# Altium schematic symbol library Capacitors.SchLib: 17 symbols
Pins are listed as number, name and electrical type; pins without a type are passive.

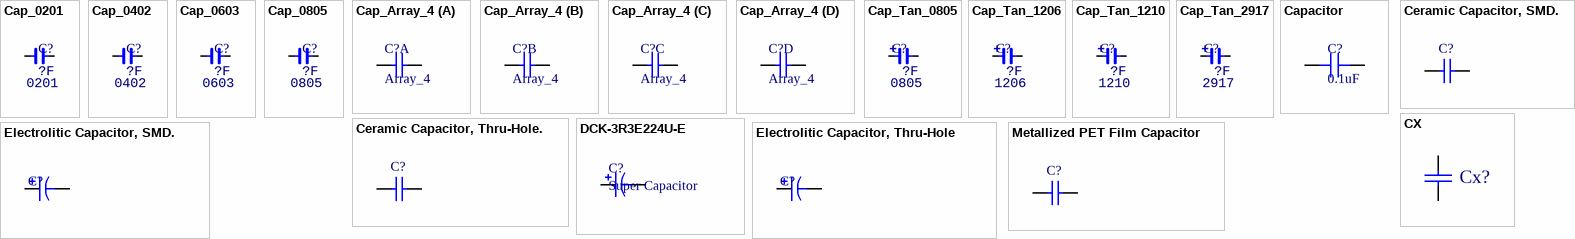
[diagram p0: symbols Cap_0201 to Metallized PET Film Capacitor]

## Cap_0201
designator C?, comment Type: 0201  (hidden comment: ?F)
Capacitor; Specification: X7R 50V; Manufacturer: *; Value: ?F
footprint CAP_0201
pins: 1, 2

## Cap_0402
designator C?, comment value ?F  Type: 0402  (hidden comment: C0402)
Capacitor; Specification: X7R 50V; Manufacturer: *
footprint CAP_0402
footprint 0402 (Empaque SMD0403 Azul)
footprint 0402_1x0.5x0.5mm (Ceramic Capacitors, 0402, body 1x0.5mm)
footprint CAP 0402/1005 (Chip Capacitor, 2-Leads, Body 1.02x0.51mm, IPC Medium Density)
footprint CAP 0402/1005 RF (Chip Capacitor, 2-Leads, Body 1.02x0.51mm, IPC High Density)
footprint SMD-0402C
pins: 1, 2

## Cap_0603
designator C?, comment value ?F  Type: 0603  (hidden comment: C0402)
Capacitor; Specification: X7R 50V; Manufacturer: *
footprint CAP_0603
pins: 1, 2

## Cap_0805
designator C?, comment value ?F  Type: 0805  (hidden comment: C0402)
Capacitor; Specification: X7R 50V; Manufacturer: *
footprint CAP_0805
pins: 1, 2

## Cap_Array_4
designator C?, comment Array_4
footprint CKCL44
part A pins: 1, 8
part B pins: 2, 7
part C pins: 3, 6
part D pins: 4, 5

## Cap_Tan_0805
designator C?, comment value ?F  Type: 0805  (hidden comment: C0805)
Capacitor Tantalum; Specification: X5R 10V; Manufacturer: *
footprint CAP_TAN_P0805
pins: 1, 2
1 alternate drawing of the same symbol

## Cap_Tan_1206
designator C?, comment value ?F  Type: 1206  (hidden comment: C1206)
Capacitor Tantalum; Specification: X5R 10V; Manufacturer: *
footprint CAP_TAN_A1206
pins: 1, 2
1 alternate drawing of the same symbol

## Cap_Tan_1210
designator C?, comment value ?F  Type: 1210  (hidden comment: C1210)
Capacitor Tantalum; Specification: X5R 10V; Manufacturer: *
footprint CAP_TAN_B1210
pins: 1, 2
1 alternate drawing of the same symbol

## Cap_Tan_2917
designator C?, comment value ?F  Type: 2917  (hidden comment: C2917)
Capacitor Tantalum; Specification: X5R 10V; Manufacturer: *
footprint CAP_TAN_D2917
pins: 1, 2
1 alternate drawing of the same symbol

## Capacitor
designator C?, comment 0.1uF
SMT Capacitor; Value: 0.1uF
footprint CAP 0201/0603 (Chip Capacitor, 2-Leads, Body 0.60x0.30mm, IPC Medium Density)
footprint CAP 0201/0603 RF (Chip Capacitor, 2-Leads, Body 0.60x0.30mm, IPC High Density)
footprint CAP 0402/1005 (Chip Capacitor, 2-Leads, Body 1.02x0.51mm, IPC Medium Density)
footprint CAP 0603/1608 (Chip Capacitor, 2-Leads, Body 1.60x0.80mm, IPC Medium Density)
footprint 1206
footprint SMD-0201C (SMD-0201)
footprint SMD-0402C
footprint SMD-0603C
footprint SMD-0805C
footprint SMD-1206C
footprint SMD-1210C
pins: 1, 2

## Ceramic Capacitor, SMD.
designator C?, comment 100 nF  (value not drawn)
Ceramic Capacitor, SMD.; LatestReviewer: Shahrear; Contact: shahrear@hiberxen.com; Value: 100 nF; Created by: Shahrear Mahmud; Publisher: HiberXen; LatestReviewData: 10-Feb-2015
footprint 0603 Gray (Empaque SMD 0603 Gris)
footprint 0805 Brown (Empaque SMD 0805 Gris)
footprint 0805 Gray (Empaque SMD 0805 Gris)
footprint CAPC1005X55N (Chip Capacitor, Body 1.0x0.5mm, EIA 0402, IPC Medium Density)
footprint CAPC1608X90N (Chip Capacitor, Body 1.6x0.8mm, EIA 0603, IPC Medium Density)
footprint CAPC2012X135N (Chip Capacitor, Body 2.0x1.2mm, EIA 0805, IPC Medium Density)
footprint CAPC3216X100N (Chip Capacitor, Body 3.2x1.6mm, 1.0mm H, EIA 1206, IPC Medium Density)
footprint CAPC3216X175N (Chip Capacitor, Body 3.2x1.6mm, 1.75mm H, EIA 1206, IPC Medium Density)
footprint CAPC3216X180N (Chip Capacitor, Body 3.2x1.6mm, 1.8mm H, EIA 1206, IPC Medium Density)
footprint CAPC3225X220N (Chip Capacitor, Body 3.2x2.5mm, EIA 1210, IPC Medium Density)
footprint CAPC4532X280N (Chip Capacitor, Body 4.5x3.2mm, 1812, IPC Medium Density)
footprint CAPC5750X250N (Chip Capacitor, Body 5.7x5.0mm, 2220, IPC Medium Density)
footprint CAPC6041X210N (Stacked film capacitor, Body 6.0x4.1mm, 2416, IPC Nominal settings)
footprint CAPMP2012X150USR (Molded body capacitor, Body 2.0x1.2mm, 0805, IPC Medium Density)
footprint CAPMP3216X180N (Capacitor, polarized, Molded Body, EIA 535BAAC size A; 3.20mm L X 1.60mm W X 1.80mm H)
footprint CAPMP3528X210N (Molded body capacitor, Body 3.5x2.8mm, 1210, IPC Nominal settings)
footprint CAPMP6032X280N (Capacitor, polarized, Molded Body, EIA 535BAAC size C; 6.00mm L X 3.20mm W X 2.80mm H)
footprint CAPMP7343X310N (Molded body capacitor, Body 7.3x4.3mm, 2917, IPC Nominal settings)
footprint 0402 (Empaque SMD0403 Azul)
pins: 1, 2

## Ceramic Capacitor, Thru-Hole.
designator C?, comment 100 nF  (value not drawn)
Ceramic Capacitor, Thru-Hole; Contact: cynetik_group@hotmail.com; Value: 100 nF; Created by: Zion Blue; Published: 28 April 2014; Publisher: Cynetik Group
footprint Ceramic Capacitor (Capacitor ceramico tipo lenteja)
footprint Ceramic Capacitor 2 (CAPACITOR CERAMICO)
footprint CAPC500P450250X550 (TDK FK24 radial ceramic capacitor)
pins: 1, 2

## CX
designator Cx?, comment 0.1uF/275Vac  (value not drawn)
Capacitor
footprint CX
footprint cap_oval_5mm
footprint cap_oval_10mm
pins: 1, 2
3 alternate drawings of the same symbol

## DCK-3R3E224U-E
designator C?, comment Super Capacitor
CAP 220MF -20% +80% 3.3V SMD; Manufacturer 1: Elna; Manufacturer Part Number 1: DCK-3R3E224U-E; Tolerance: 80%; ESR (Equivalent Series Resistance): 200R; Life (Hours): 1000Hour; Mount: Surface Mount; Case/Package: SMD/SMT; Min Operating Temperature: -10°C; Max Operating Temperature: 60°C; Package Quantity: 200; Capacitance: 220mF; Voltage Rating: 3.3V; Packaging: Bulk; Termination: Solder; Voltage Rating (DC): 3.3V; Height - Seated (Max): 0.083inch; Lead Free: Lead Free; ComponentLink1URL: https://datasheet.ciiva.com/238/dc-dcke-238224.pdf; ComponentLink1Description: https://datasheet.ciiva.com/238/dc-dcke-238224.pdf; Pricing 1: 1=1.41, 10=1.114, 100=0.8352, 500=0.63104, 1000=0.5568, 2500=0.51968, 5000=0.50112 (USD); Stock 1: 9675; Supplier 1: Digi-Key; Supplier Part Number 1: 604-1007-ND
footprint DCK-3R3E224U-E (Empaque SMD0403 Azul)
pins: 1, 2

## Electrolitic Capacitor, SMD.
designator C?, comment 100 μF  (value not drawn)
Electrolitic Capacitor, SMD.; Contact: cynetik_group@hotmail.com; Published: 28 April 2014; Publisher: Cynetik Group; Created by: Zion Blue; Value: 100 μF
footprint CAP_ELEC_5x5.7 (Capacitor, polarized, aluminum can; 5x5.7mm DxH)
footprint CAP_ELEC_6.3x4.2 (Capacitor, polarized, aluminum can; 6.3x4.2mm DxH)
footprint CAP_ELEC_SIZE_H13 (Capacitor, polarized, aluminum can; 12.5x13.5mm DxH)
footprint CAP_ELEC_8x8mm (Capacitor, polarized, aluminum can; 8.0x8.0mm DxH)
footprint CAP_ELEC_10.3x10.3 (Capacitor, polarized, aluminum can; 10.0x10.2mm DxH)
footprint CAPAE 19.1x19.1 (Aluminum Electrolytic Capacitor, Body 19.05x19.05x16.00mm, IPC Low Density)
pins: 1, 2
2 alternate drawings of the same symbol

## Electrolitic Capacitor, Thru-Hole
designator C?, comment 100 μF  (value not drawn)
Electrolitic Capacitor, Thru-Hole; Contact: cynetik_group@hotmail.com; Published: 28 April 2014; Publisher: Cynetik Group; Created by: Zion Blue; Value: 100 μF
footprint Radial 12.5 x 25 (Capacitor Radial 12.5mm diametro  x 25mm de altura)
footprint Radial 6.3x11 (Capacitor  Electrolitico Radial 6.3mm diametro  x 11mm de altura (2.5mm entre pines))
footprint Radial 16.5 x 26 (Capacitor  Electrolitico Radial 16.5mm diametro  x 26mm de altura (7.5mm entre pines))
footprint RADIAL 3.5x7.7 (Capacitor  Electrolitico Radial 3.5mm diametro  x 7.7mm de altura (1.5mm entre pines))
footprint CAPAE200P550X1200_FLAT1
footprint CAPAE200P550X1200_FLAT2
footprint CAPAE250P680X1220_FLAT1
footprint CAPAE250P680X1220_VERT
footprint CAPE3.5-5.0MM_Rad_10x14mm (3.5 & 5.0mm Pitch Radial Capacitor 10x14mm DxH)
footprint CAPE3.5mm
footprint CAPE5.0mm
footprint CAPE10.0MM_Rad_10x14mm (10mm Pitch Radial Capacitor 10x14mm DxH)
footprint CAPE10.0MM_Rad_30x45mm (10mm Pitch Radial Capacitor)
footprint CAPE_5x11x2LS (Capacitor, electrolytic, radial can)
footprint CAPE_5x11x2LS_RA (Capacitor, electrolytic, radial can, laid over)
footprint CAPE 4x6x1.5mm (Electrolytic Capacitor,Thru-Hole,  2 Leads, Radial, 4mm Diameter, 6mm Height, 1.5mm Pin Spacing)
pins: 1, 2
2 alternate drawings of the same symbol

## Metallized PET Film Capacitor
designator C?, comment 100 nF  (value not drawn)
Metallized PET Film Capacitor, Thru-Hole; Contact: cynetik_group@hotmail.com; Value: 100 nF; Created by: Zion Blue; Published: 28 April 2014; Publisher: Cynetik Group
footprint CAPM50P720300X650_FLAT (Capacitor, THT, Metallized Polyester Film with 7.2x3.0x6.5mm LxTxH)
footprint CAPM50P720300X650_VERT (Capacitor, THT, Metallized Polyester Film with 7.2x3.0x6.5mm LxTxH)
footprint CAPM50P720300X650_XFLAT (Capacitor, THT, Metallized Polyester Film with 7.2x3.0x6.5mm LxTxH)
footprint CAPM50P720350X800_FLAT (Capacitor, THT, Metallized Polyester Film with 7.2x3.5x8.0mm LxTxH)
footprint CAPM50P760490X990_FLAT (Capacitor, THT, Metallized Polyester Film with 7.2x4.5x9.5mm LxTxH)
footprint CAPM50P760640X1140_FLAT (Capacitor, THT, Metallized Polyester Film with 6.0x11.0x7.2mm TxHxW)
footprint CAPM50P780780X1300_FLAT (Capacitor, THT, Metallized Polyester Film with 7.8x7.8x13.0mm LxTxH)
footprint CAPM75P1000400X850_FLAT (Capacitor, THT, Metallized Polyester Film with 3.5x9.5x10.0mm TxHxW)
footprint CAPM75P1000500X1050_FLAT_250V100nF (Capacitor, THT, Metallized Polyester Film with 3.5x9.5x10.0mm TxHxW)
footprint CAPM75P1000500X1050_FLAT_Dual250V100nF (Capacitor, THT, Metallized Polyester Film with 3.5x9.5x10.0mm TxHxW)
footprint CAPM75P1000500X1050_FLAT_with5mm (Capacitor, THT, Metallized Polyester Film with 3.5x9.5x10.0mm TxHxW)
footprint CAPM75P1000500X1050_FLAT_with5mm 2 (Capacitor, THT, Metallized Polyester Film with 3.5x9.5x10.0mm TxHxW)
footprint CAPM75P1000500X1050_FLAT_with5mm 2 - duplicate (Capacitor, THT, Metallized Polyester Film with 3.5x9.5x10.0mm TxHxW)
footprint CAPM75P1000500X1050_FLAT_with5mm 3 (Capacitor, THT, Metallized Polyester Film with 3.5x9.5x10.0mm TxHxW)
footprint CAPMF3.5-5.0-7.5mm (Capacitor, THT, Metallized Polyester Film, 3.5 & 5.0 & 7.5mm pitch hybrid)
footprint CAPMF5.0-7.5mm (Capacitor, THT, Metallized Polyester Film, 5 & 7.5mm pitch hybrid)
footprint CAPMF5.0-7.5mm_SL (Capacitor, THT, Metallized Polyester Film)
footprint CAPMF 7.2x2.5x6.5x5LS (Capacitor, THT, Metallized Polyester Film)
footprint CAPMF 7.3x5.2x7x5LS (Capacitor, THT, Metallized Polyester Film)
footprint CAPMF 7.3x6.5x10x5LS (Capacitor, THT, Metallized Polyester Film)
footprint CAPMF 7.3x5.7x7.3x5LS (Capacitor, THT, Metallized Polyester Film)
footprint CAPMF7.5mm (Capacitor, THT, Metallized Polyester Film)
footprint CAPMF7.5mm_SL (Capacitor, THT, Metallized Polyester Film)
footprint CAPMF12.5x4.5x9.0x10mmLS (Capacitor, MF, Thru-Hole, Dipped Radial; Body 12.5 x 4.5 x 9.0 mm (WxTxH) Pin Spacing 10.0 mm (typ))
footprint CAPMF13.0x5.0x11.0x10.0mm LxWxHxP (Capacitor, THT, Metallized Polypropylene Film, 10mm lead pitch)
pins: 1, 2